# EAGLE library part TLW-106-05-T-D (library SAMTEC-Txx_By_element14_Batch_1)
LOW PROFILE HEADER, DOUBLE ROW, 12 way
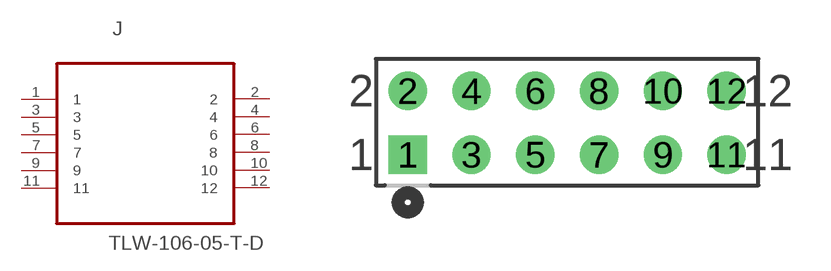
[diagram p142: symbol with the pads of SAMTEC_TLW-106-05-T-D; footprint SAMTEC_TLW-106-05-T-D]

Designator prefix J

## TLW-106-05-T-D (MPN: TLW-106-05-T-D; OC_FARNELL: -; OC_NEWARK: 12P0406; PACKAGE: LOW PROFILE HEADER; SUPPLIER: SAMTEC)  [SAMTEC_TLW-106-05-T-D]
1  1  pas
2  2  pas
3  3  pas
4  4  pas
5  5  pas
6  6  pas
7  7  pas
8  8  pas
9  9  pas
10  10  pas
11  11  pas
12  12  pas

## Footprint SAMTEC_TLW-106-05-T-D (pad centres in mm)
drill 1.016 square: 1 -12.7,-2.54
drill 1.016: 2 -12.7,0; 3 -10.16,-2.54; 4 -10.16,0; 5 -7.62,-2.54; 6 -7.62,0; 7 -5.08,-2.54; 8 -5.08,0; 9 -2.54,-2.54; 10 -2.54,0; 11 0,-2.54; 12 0,0